# Altium integrated library AltiumV14.IntLib: 1 symbol
Pins are listed as number, name and electrical type; pins without a type are passive.

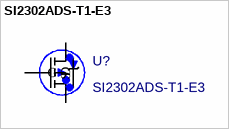
[diagram p0: symbol SI2302ADS-T1-E3]

## SI2302ADS-T1-E3
designator U?
C: Copyright (C) 2015 Accelerated Designs. All rights reserved; Vendor: Vishay; Built_By: EMA_UL_Team; Manufacturer_Part_Number: SI2302ADS-T1-E3; Value: SI2302ADS-T1-E3
footprint TO-236
pins: 1 G, 2 S, 3 D